# Altium schematic symbol library Device.SchLib: 567 symbols (part 1 of 3)
Pins are listed as number, name and electrical type; pins without a type are passive.

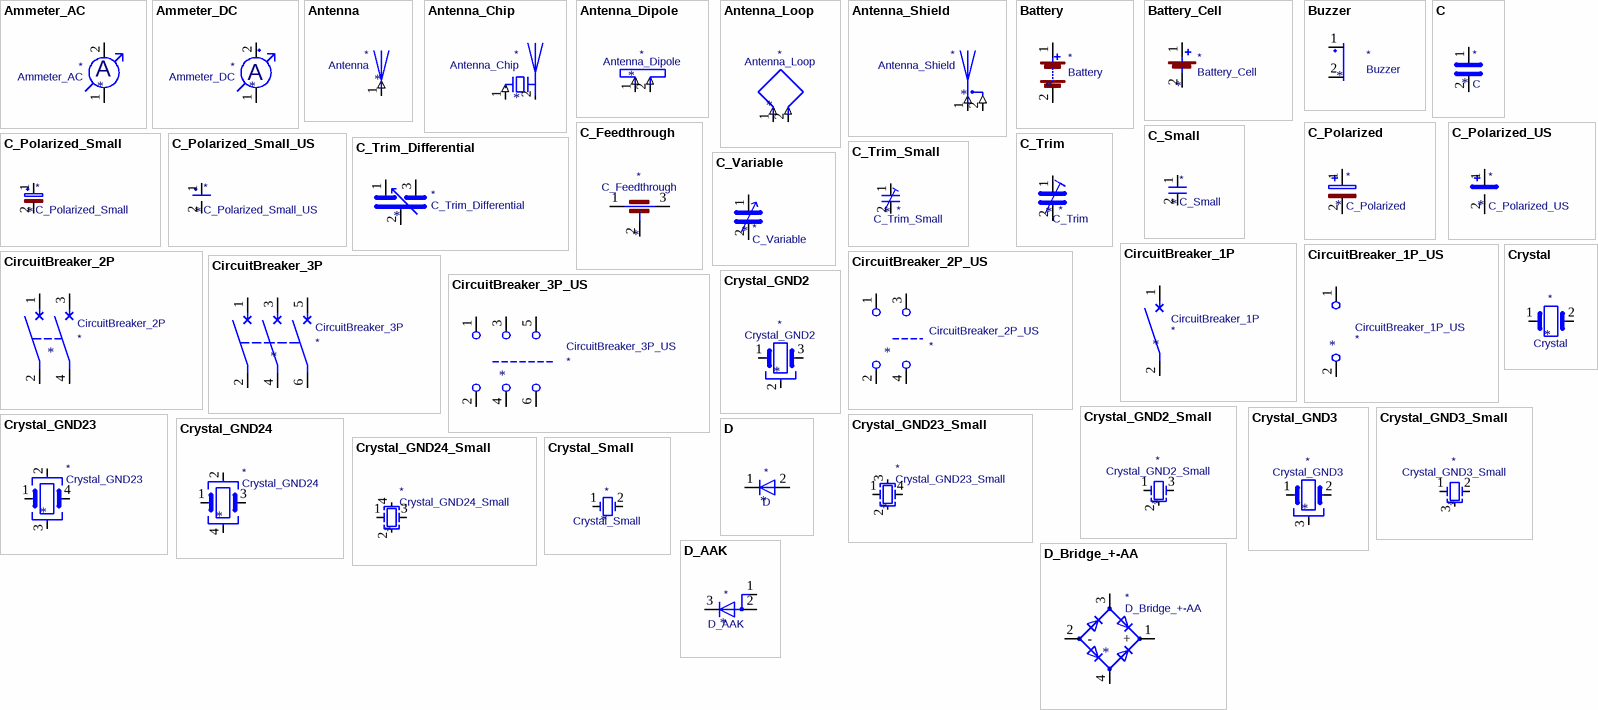
[diagram p0: symbols Ammeter_AC to D_Bridge_+-AA]

## Ammeter_AC
designator *  value Ammeter_AC
ki_keywords: ammeter AC ampere meter; ki_description: AC ammeter; Supplier: ~
pins: 1, 2
text: A

## Ammeter_DC
designator *  value Ammeter_DC
ki_keywords: ammeter DC ampere meter; ki_description: DC ammeter; Supplier: ~
pins: 1 -, 2 +
text: A

## Antenna
designator *  value Antenna
Supplier: ~; ki_keywords: antenna; ki_description: Antenna
pins: 1 A (in)

## Antenna_Chip
designator *  value Antenna_Chip
ki_keywords: antenna; ki_description: Ceramic chip antenna with pin for PCB trace; Supplier: ~
pins: 1 FEED (in), 2 PCB_Trace

## Antenna_Dipole
designator *  value Antenna_Dipole
ki_keywords: dipole antenna; Supplier: ~; ki_description: Dipole antenna
pins: 1 (in), 2 (in)

## Antenna_Loop
designator *  value Antenna_Loop
ki_keywords: loop antenna; Supplier: ~; ki_description: Loop antenna
pins: 1 (in), 2 (in)

## Antenna_Shield
designator *  value Antenna_Shield
ki_keywords: antenna; ki_description: Antenna with extra pin for shielding; Supplier: ~
pins: 1 A (in), 2 Shield (in)

## Battery
designator *  value Battery
ki_keywords: batt voltage-source cell; ki_description: Multiple-cell battery; Supplier: ~
pins: 1 +, 2 -

## Battery_Cell
designator *  value Battery_Cell
ki_keywords: battery cell; ki_description: Single-cell battery; Supplier: ~
pins: 1 +, 2 -

## Buzzer
designator *  value Buzzer
ki_keywords: quartz resonator ceramic; ki_description: Buzzer, polarized; ki_fp_filters: *Buzzer*; Supplier: ~
pins: 1 -, 2 +

## C
designator *  value C
ki_keywords: cap capacitor; ki_description: Unpolarized capacitor; ki_fp_filters: C_*; Supplier: ~
footprint C_0603_1608Metric
pins: 1, 2

## C_Feedthrough
designator *  value C_Feedthrough
ki_keywords: EMI filter feedthrough capacitor; ki_description: Feedthrough capacitor; Supplier: ~
pins: 1, 2, 3

## C_Polarized
designator *  value C_Polarized
ki_keywords: cap capacitor; ki_description: Polarized capacitor; ki_fp_filters: CP_*; Supplier: ~
pins: 1, 2

## C_Polarized_Small
designator *  value C_Polarized_Small
ki_keywords: cap capacitor; ki_description: Polarized capacitor, small symbol; ki_fp_filters: CP_*; Supplier: ~
pins: 1, 2

## C_Polarized_Small_US
designator *  value C_Polarized_Small_US
ki_keywords: cap capacitor; ki_description: Polarized capacitor, small US symbol; ki_fp_filters: CP_*; Supplier: ~
pins: 1, 2

## C_Polarized_US
designator *  value C_Polarized_US
ki_keywords: cap capacitor; ki_description: Polarized capacitor, US symbol; ki_fp_filters: CP_*; Supplier: ~
pins: 1, 2

## C_Small
designator *  value C_Small
ki_keywords: capacitor cap; ki_description: Unpolarized capacitor, small symbol; ki_fp_filters: C_*; Supplier: ~
pins: 1, 2

## C_Trim
designator *  value C_Trim
ki_keywords: trimmer variable capacitor; ki_description: Trimmable capacitor; Supplier: ~
pins: 1, 2

## C_Trim_Differential
designator *  value C_Trim_Differential
ki_keywords: trimmer capacitor; ki_description: Differential variable capacitor with two stators; Supplier: ~
pins: 1, 2, 3

## C_Trim_Small
designator *  value C_Trim_Small
ki_keywords: trimmer variable capacitor; ki_description: Trimmable capacitor, small symbol; ki_fp_filters: C_*; Supplier: ~
pins: 1, 2

## C_Variable
designator *  value C_Variable
ki_keywords: trimmer capacitor; ki_description: Variable capacitor; Supplier: ~
pins: 1, 2

## CircuitBreaker_1P
designator *  value CircuitBreaker_1P
ki_keywords: CB; ki_description: Single pole circuit breaker; Supplier: ~
pins: 1, 2

## CircuitBreaker_1P_US
designator *  value CircuitBreaker_1P_US
ki_keywords: CB; ki_description: Single pole circuit breaker, US symbol; Supplier: ~
pins: 1, 2

## CircuitBreaker_2P
designator *  value CircuitBreaker_2P
ki_keywords: CB 2P; ki_description: Double pole circuit breaker; Supplier: ~
pins: 1, 2, 3, 4

## CircuitBreaker_2P_US
designator *  value CircuitBreaker_2P_US
ki_keywords: CB 2P; ki_description: Double pole circuit breaker, US symbol; Supplier: ~
pins: 1, 2, 3, 4

## CircuitBreaker_3P
designator *  value CircuitBreaker_3P
ki_keywords: CB 3P; ki_description: Triple pole circuit breaker; Supplier: ~
pins: 1, 2, 3, 4, 5, 6

## CircuitBreaker_3P_US
designator *  value CircuitBreaker_3P_US
ki_keywords: CB 3P; ki_description: Triple pole circuit breaker, US symbol; Supplier: ~
pins: 1, 2, 3, 4, 5, 6

## Crystal
designator *  value Crystal
ki_keywords: quartz ceramic resonator oscillator; ki_description: Two pin crystal; ki_fp_filters: Crystal*; Supplier: ~
pins: 1, 2

## Crystal_GND2
designator *  value Crystal_GND2
ki_keywords: quartz ceramic resonator oscillator; ki_description: Three pin crystal, GND on pin 2; ki_fp_filters: Crystal*; Supplier: ~
pins: 1, 2, 3

## Crystal_GND2_Small
designator *  value Crystal_GND2_Small
ki_keywords: quartz ceramic resonator oscillator; ki_description: Three pin crystal, GND on pin 2, small symbol; ki_fp_filters: Crystal*; Supplier: ~
pins: 1, 2, 3

## Crystal_GND3
designator *  value Crystal_GND3
ki_keywords: quartz ceramic resonator oscillator; ki_description: Three pin crystal, GND on pin 3; ki_fp_filters: Crystal*; Supplier: ~
pins: 1, 2, 3

## Crystal_GND3_Small
designator *  value Crystal_GND3_Small
ki_keywords: quartz ceramic resonator oscillator; ki_description: Three pin crystal, GND on pin 3, small symbol; ki_fp_filters: Crystal*; Supplier: ~
pins: 1, 2, 3

## Crystal_GND23
designator *  value Crystal_GND23
ki_keywords: quartz ceramic resonator oscillator; ki_description: Four pin crystal, GND on pins 2 and 3; ki_fp_filters: Crystal*; Supplier: ~
pins: 1, 2, 3, 4

## Crystal_GND23_Small
designator *  value Crystal_GND23_Small
ki_keywords: quartz ceramic resonator oscillator; ki_description: Four pin crystal, GND on pins 2 and 3, small symbol; ki_fp_filters: Crystal*; Supplier: ~
pins: 1, 2, 3, 4

## Crystal_GND24
designator *  value Crystal_GND24
ki_keywords: quartz ceramic resonator oscillator; ki_description: Four pin crystal, GND on pins 2 and 4; ki_fp_filters: Crystal*; Supplier: ~
pins: 1, 2, 3, 4

## Crystal_GND24_Small
designator *  value Crystal_GND24_Small
ki_keywords: quartz ceramic resonator oscillator; ki_description: Four pin crystal, GND on pins 2 and 4, small symbol; ki_fp_filters: Crystal*; Supplier: ~
pins: 1, 2, 3, 4

## Crystal_Small
designator *  value Crystal_Small
ki_keywords: quartz ceramic resonator oscillator; ki_description: Two pin crystal, small symbol; ki_fp_filters: Crystal*; Supplier: ~
pins: 1, 2

## D
designator *  value D
ki_keywords: diode; ki_fp_filters: TO-???* *_Diode_* *SingleDiode* D_*; Supplier: ~; ki_description: Diode
footprint D_SOD-323
pins: 1 K, 2 A

## D_AAK
designator *  value D_AAK
ki_keywords: diode; ki_description: Diode, anode on pins 1 and 2; ki_fp_filters: TO-???* *_Diode_* *SingleDiode* D_*; Supplier: ~
pins: 1 A, 2 A, 3 K

## D_Bridge_+-AA
designator *  value D_Bridge_+-AA
ki_keywords: rectifier ACDC; ki_description: Diode bridge, +ve/-ve/AC/AC; ki_fp_filters: D*Bridge* D*Rectifier*; Supplier: ~
pins: 1 +, 2 -, 3, 4

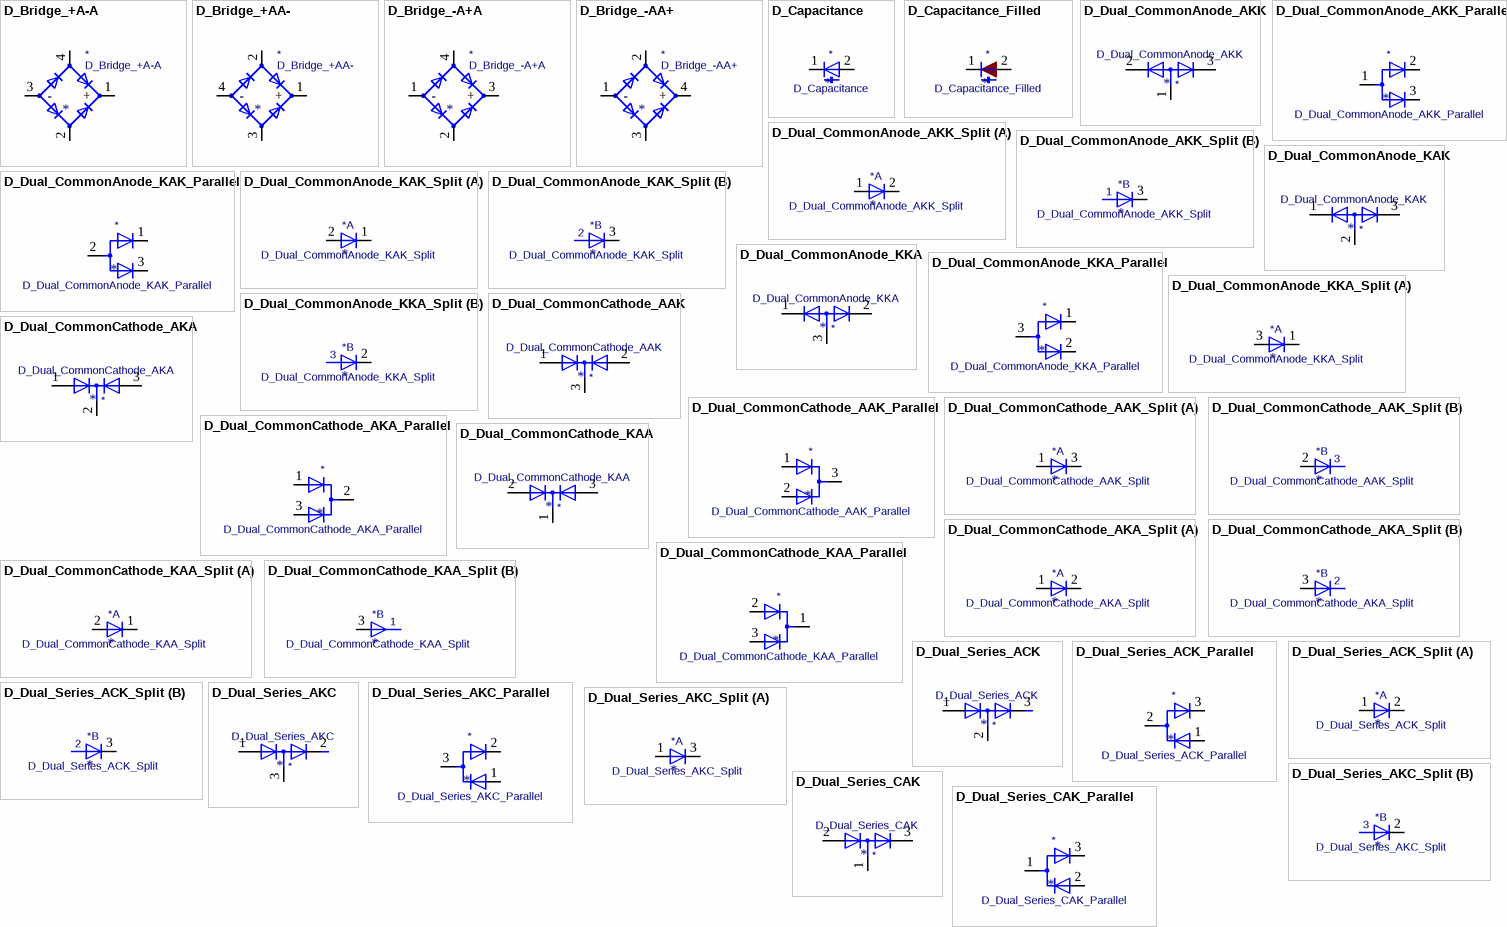
[diagram p1: symbols D_Bridge_+A-A to D_Dual_Series_CAK_Parallel]

## D_Bridge_+A-A
designator *  value D_Bridge_+A-A
ki_keywords: rectifier ACDC; ki_description: Diode bridge, +ve/AC/-ve/AC; ki_fp_filters: D*Bridge* D*Rectifier*; Supplier: ~
pins: 1 +, 2, 3 -, 4

## D_Bridge_+AA-
designator *  value D_Bridge_+AA-
ki_keywords: rectifier ACDC; ki_description: Diode bridge, +ve/AC/AC/-ve; ki_fp_filters: D*Bridge* D*Rectifier*; Supplier: ~
pins: 1 +, 2, 3, 4 -

## D_Bridge_-A+A
designator *  value D_Bridge_-A+A
ki_keywords: rectifier ACDC; ki_description: Diode bridge, -ve/AC/+ve/AC; ki_fp_filters: D*Bridge* D*Rectifier*; Supplier: ~
pins: 1 -, 2, 3 +, 4

## D_Bridge_-AA+
designator *  value D_Bridge_-AA+
ki_keywords: rectifier ACDC; ki_description: Diode bridge, -ve/AC/AC/+ve; ki_fp_filters: D*Bridge* D*Rectifier*; Supplier: ~
pins: 1 -, 2, 3, 4 +

## D_Capacitance
designator *  value D_Capacitance
ki_keywords: capacitance diode varicap varactor; ki_description: Variable capacitance diode; ki_fp_filters: TO-???* *_Diode_* *SingleDiode* D_*; Supplier: ~
pins: 1 K, 2 A

## D_Capacitance_Filled
designator *  value D_Capacitance_Filled
ki_keywords: capacitance diode varicap varactor; ki_description: Variable capacitance diode, filled shape; ki_fp_filters: TO-???* *_Diode_* *SingleDiode* D_*; Supplier: ~
pins: 1 K, 2 A

## D_Dual_CommonAnode_AKK
designator *  value D_Dual_CommonAnode_AKK
ki_keywords: diode; ki_description: Dual diode, common anode on pin 1; Supplier: ~
pins: 1 A, 2 K, 3 K

## D_Dual_CommonAnode_AKK_Parallel
designator *  value D_Dual_CommonAnode_AKK_Parallel
ki_keywords: diode; ki_description: Dual diode, common anode on pin 1; Supplier: ~
pins: 1 A, 2 K, 3 K

## D_Dual_CommonAnode_AKK_Split
designator *  value D_Dual_CommonAnode_AKK_Split
ki_keywords: diode; ki_description: Dual diode, common anode on pin 1; Supplier: ~
part A pins: 1 A, 2 K
part B pins: 3 K

## D_Dual_CommonAnode_KAK
designator *  value D_Dual_CommonAnode_KAK
ki_keywords: diode; ki_description: Dual diode, common anode on pin 2; Supplier: ~
pins: 1 K, 2 A, 3 K

## D_Dual_CommonAnode_KAK_Parallel
designator *  value D_Dual_CommonAnode_KAK_Parallel
ki_keywords: diode; ki_description: Dual diode, common anode on pin 1; Supplier: ~
pins: 1 K, 2 A, 3 K

## D_Dual_CommonAnode_KAK_Split
designator *  value D_Dual_CommonAnode_KAK_Split
ki_keywords: diode; ki_description: Dual diode, common anode on pin 1; Supplier: ~
part A pins: 1 K, 2 A
part B pins: 3 K

## D_Dual_CommonAnode_KKA
designator *  value D_Dual_CommonAnode_KKA
ki_keywords: diode; ki_description: Dual diode, common anode on pin 3; Supplier: ~
pins: 1 K, 2 K, 3 A

## D_Dual_CommonAnode_KKA_Parallel
designator *  value D_Dual_CommonAnode_KKA_Parallel
ki_keywords: diode; ki_description: Dual diode, common anode on pin 1; Supplier: ~
pins: 1 K, 2 K, 3 A

## D_Dual_CommonAnode_KKA_Split
designator *  value D_Dual_CommonAnode_KKA_Split
ki_keywords: diode; ki_description: Dual diode, common anode on pin 1; Supplier: ~
part A pins: 1 K, 3 A
part B pins: 2 K

## D_Dual_CommonCathode_AAK
designator *  value D_Dual_CommonCathode_AAK
ki_keywords: diode; ki_description: Dual diode, common cathode on pin 3; Supplier: ~
pins: 1 A, 2 A, 3 K

## D_Dual_CommonCathode_AAK_Parallel
designator *  value D_Dual_CommonCathode_AAK_Parallel
ki_keywords: diode; ki_description: Dual diode, common anode on pin 1; Supplier: ~
pins: 1 K, 2 K, 3 A

## D_Dual_CommonCathode_AAK_Split
designator *  value D_Dual_CommonCathode_AAK_Split
ki_keywords: diode; ki_description: Dual diode, common anode on pin 1; Supplier: ~
part A pins: 1 A, 3 K
part B pins: 2 K

## D_Dual_CommonCathode_AKA
designator *  value D_Dual_CommonCathode_AKA
ki_keywords: diode; ki_description: Dual diode, common cathode on pin 2; Supplier: ~
pins: 1 A, 2 K, 3 A

## D_Dual_CommonCathode_AKA_Parallel
designator *  value D_Dual_CommonCathode_AKA_Parallel
ki_keywords: diode; ki_description: Dual diode, common anode on pin 1; Supplier: ~
pins: 1 K, 2 A, 3 K

## D_Dual_CommonCathode_AKA_Split
designator *  value D_Dual_CommonCathode_AKA_Split
ki_keywords: diode; ki_description: Dual diode, common anode on pin 1; Supplier: ~
part A pins: 1 A, 2 K
part B pins: 3 K

## D_Dual_CommonCathode_KAA
designator *  value D_Dual_CommonCathode_KAA
ki_keywords: diode; ki_description: Dual diode, common cathode on pin 1; Supplier: ~
pins: 1 K, 2 A, 3 A

## D_Dual_CommonCathode_KAA_Parallel
designator *  value D_Dual_CommonCathode_KAA_Parallel
ki_keywords: diode; ki_description: Dual diode, common anode on pin 1; Supplier: ~
pins: 1 A, 2 K, 3 K

## D_Dual_CommonCathode_KAA_Split
designator *  value D_Dual_CommonCathode_KAA_Split
ki_keywords: diode; ki_description: Dual diode, common anode on pin 1; Supplier: ~
part A pins: 1 K, 2 A
part B pins: 3 K

## D_Dual_Series_ACK
designator *  value D_Dual_Series_ACK
ki_keywords: diode; ki_description: Dual diode, anode/center/cathode; Supplier: ~
pins: 1 A, 2 common, 3 K

## D_Dual_Series_ACK_Parallel
designator *  value D_Dual_Series_ACK_Parallel
ki_keywords: diode; ki_description: Dual diode, anode/center/cathode; Supplier: ~
pins: 1 K, 2 A, 3 K

## D_Dual_Series_ACK_Split
designator *  value D_Dual_Series_ACK_Split
ki_keywords: diode; ki_description: Dual diode, anode/center/cathode; Supplier: ~
part A pins: 1 A, 2 K
part B pins: 3 K

## D_Dual_Series_AKC
designator *  value D_Dual_Series_AKC
ki_keywords: diode; ki_description: Dual diode, anode/cathode/center; Supplier: ~
pins: 1 A, 2 K, 3 common

## D_Dual_Series_AKC_Parallel
designator *  value D_Dual_Series_AKC_Parallel
ki_keywords: diode; ki_description: Dual diode, anode/cathode/center; Supplier: ~
pins: 1 K, 2 K, 3 A

## D_Dual_Series_AKC_Split
designator *  value D_Dual_Series_AKC_Split
ki_keywords: diode; ki_description: Dual diode, anode/cathode/center; Supplier: ~
part A pins: 1 A, 3 K
part B pins: 2 K

## D_Dual_Series_CAK
designator *  value D_Dual_Series_CAK
ki_keywords: diode; ki_description: Dual diode, center/anode/cathode; Supplier: ~
pins: 1 common, 2 A, 3 K

## D_Dual_Series_CAK_Parallel
designator *  value D_Dual_Series_CAK_Parallel
ki_keywords: diode; ki_description: Dual diode, center/anode/cathode; Supplier: ~
pins: 1 A, 2 K, 3 K

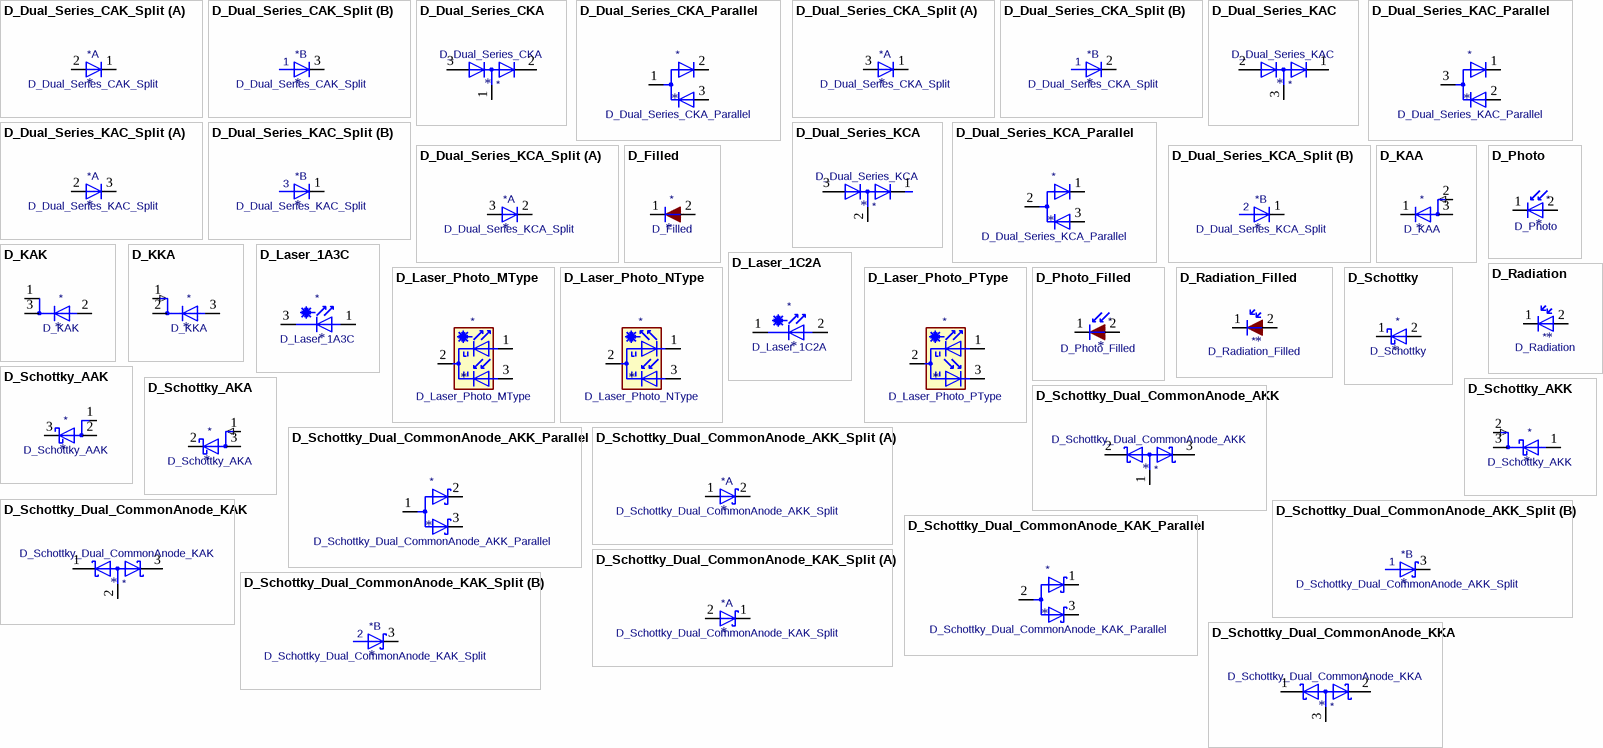
[diagram p2: symbols D_Dual_Series_CAK_Split to D_Schottky_Dual_CommonAnode_KKA]

## D_Dual_Series_CAK_Split
designator *  value D_Dual_Series_CAK_Split
ki_keywords: diode; ki_description: Dual diode, center/anode/cathode; Supplier: ~
part A pins: 1 K, 2 A
part B pins: 3 K

## D_Dual_Series_CKA
designator *  value D_Dual_Series_CKA
ki_keywords: diode; ki_description: Dual diode, center/cathode/anode; Supplier: ~
pins: 1 common, 2 K, 3 A

## D_Dual_Series_CKA_Parallel
designator *  value D_Dual_Series_CKA_Parallel
ki_keywords: diode; ki_description: Dual diode, center/cathode/anode; Supplier: ~
pins: 1 A, 2 K, 3 K

## D_Dual_Series_CKA_Split
designator *  value D_Dual_Series_CKA_Split
ki_keywords: diode; ki_description: Dual diode, center/cathode/anode; Supplier: ~
part A pins: 1 K, 3 A
part B pins: 2 K

## D_Dual_Series_KAC
designator *  value D_Dual_Series_KAC
ki_keywords: diode; ki_description: Dual diode, cathode/anode/center; Supplier: ~
pins: 1 K, 2 A, 3 common

## D_Dual_Series_KAC_Parallel
designator *  value D_Dual_Series_KAC_Parallel
ki_keywords: diode; ki_description: Dual diode, cathode/anode/center; Supplier: ~
pins: 1 K, 2 K, 3 A

## D_Dual_Series_KAC_Split
designator *  value D_Dual_Series_KAC_Split
ki_keywords: diode; ki_description: Dual diode, cathode/anode/center; Supplier: ~
part A pins: 2 A, 3 K
part B pins: 1 K

## D_Dual_Series_KCA
designator *  value D_Dual_Series_KCA
ki_keywords: diode; ki_description: Dual diode, cathode/center/anode; Supplier: ~
pins: 1 K, 2 common, 3 A

## D_Dual_Series_KCA_Parallel
designator *  value D_Dual_Series_KCA_Parallel
ki_keywords: diode; ki_description: Dual diode, cathode/center/anode; Supplier: ~
pins: 1 K, 2 A, 3 K

## D_Dual_Series_KCA_Split
designator *  value D_Dual_Series_KCA_Split
ki_keywords: diode; ki_description: Dual diode, cathode/center/anode; Supplier: ~
part A pins: 2 K, 3 A
part B pins: 1 K

## D_Filled
designator *  value D_Filled
ki_keywords: diode; ki_description: Diode, filled shape; ki_fp_filters: TO-???* *_Diode_* *SingleDiode* D_*; Supplier: ~
pins: 1 K, 2 A

## D_KAA
designator *  value D_KAA
ki_keywords: diode; ki_description: Diode, anode on pins 2 and 3; ki_fp_filters: TO-???* *_Diode_* *SingleDiode* D_*; Supplier: ~
pins: 1 K, 2 A (in), 3 A

## D_KAK
designator *  value D_KAK
ki_keywords: diode; ki_description: Diode, cathode on pins 1 and 3; ki_fp_filters: TO-???* *_Diode_* *SingleDiode* D_*; Supplier: ~
pins: 1 K, 2 A, 3 K

## D_KKA
designator *  value D_KKA
ki_keywords: diode; ki_description: Diode, cathode on pins 1 and 2; ki_fp_filters: TO-???* *_Diode_* *SingleDiode* D_*; Supplier: ~
pins: 1 K (in), 2 K, 3 A

## D_Laser_1A3C
designator *  value D_Laser_1A3C
ki_keywords: opto laserdiode; ki_description: Laser diode, cathode on pin 3, anode on pin 1; ki_fp_filters: *LaserDiode*; Supplier: ~
pins: 1 A, 3 K

## D_Laser_1C2A
designator *  value D_Laser_1C2A
ki_keywords: opto laserdiode; ki_description: Laser diode, cathode on pin 1, anode on pin 2; ki_fp_filters: *LaserDiode*; Supplier: ~
pins: 1 K, 2 A

## D_Laser_Photo_MType
designator *  value D_Laser_Photo_MType
ki_keywords: opto laserdiode photodiode; ki_description: Laser diode with photodiode, common cathode on pin 2; ki_fp_filters: *LaserDiode*; Supplier: http://www.egismos.disonhu.com/laser/diode-package.htm
pins: 1, 2, 3

## D_Laser_Photo_NType
designator *  value D_Laser_Photo_NType
ki_keywords: opto laserdiode photodiode; ki_description: Laser diode with photodiode, center on pin 2, LD cathode on pin 1; ki_fp_filters: *LaserDiode*; Supplier: http://www.egismos.disonhu.com/laser/diode-package.htm
pins: 1, 2, 3

## D_Laser_Photo_PType
designator *  value D_Laser_Photo_PType
ki_keywords: opto laserdiode photodiode; ki_description: Laser diode with photodiode, center on pin 2, PD cathode on pin 3; ki_fp_filters: *LaserDiode*; Supplier: http://www.egismos.disonhu.com/laser/diode-package.htm
pins: 1, 2, 3

## D_Photo
designator *  value D_Photo
ki_keywords: photodiode diode opto; ki_description: Photodiode; Supplier: ~
pins: 1 K, 2 A

## D_Photo_Filled
designator *  value D_Photo_Filled
ki_keywords: photodiode diode opto; ki_description: Photodiode, filled shape; Supplier: ~
pins: 1 K, 2 A

## D_Radiation
designator *  value D_Radiation
ki_keywords: radiation detector diode; ki_description: Semiconductor radiation detector; Supplier: ~
pins: 1 K, 2 A

## D_Radiation_Filled
designator *  value D_Radiation_Filled
ki_keywords: radiation detector diode; ki_description: Semiconductor radiation detector, filled shape; Supplier: ~
pins: 1 K, 2 A

## D_Schottky
designator *  value D_Schottky
ki_keywords: diode Schottky; ki_description: Schottky diode; ki_fp_filters: TO-???* *_Diode_* *SingleDiode* D_*; Supplier: ~
pins: 1 K, 2 A

## D_Schottky_AAK
designator *  value D_Schottky_AAK
ki_keywords: diode Schottky SCHDPAK; ki_description: Schottky diode, anode on pins 1 and 2; ki_fp_filters: TO-???* *_Diode_* *SingleDiode* D_*; Supplier: ~
pins: 1 A, 2 A, 3 K

## D_Schottky_AKA
designator *  value D_Schottky_AKA
ki_keywords: diode Schottky SCHDPAK; ki_description: Schottky diode, anode on pins 1 and 3; ki_fp_filters: TO-???* *_Diode_* *SingleDiode* D_*; Supplier: ~
pins: 1 A (in), 2 K, 3 A

## D_Schottky_AKK
designator *  value D_Schottky_AKK
ki_keywords: diode Schottky SCHDPAK; ki_description: Schottky diode, cathode on pins 2 and 3; ki_fp_filters: TO-???* *_Diode_* *SingleDiode* D_*; Supplier: ~
pins: 1 A, 2 K (in), 3 K

## D_Schottky_Dual_CommonAnode_AKK
designator *  value D_Schottky_Dual_CommonAnode_AKK
ki_keywords: diode; ki_description: Dual Schottky diode, common anode on pin 1; Supplier: ~
pins: 1 A, 2 K, 3 K

## D_Schottky_Dual_CommonAnode_AKK_Parallel
designator *  value D_Schottky_Dual_CommonAnode_AKK_Parallel
ki_keywords: diode; ki_description: Dual Schottky diode, common anode on pin 1; Supplier: ~
pins: 1 A, 2 K, 3 K

## D_Schottky_Dual_CommonAnode_AKK_Split
designator *  value D_Schottky_Dual_CommonAnode_AKK_Split
ki_keywords: diode; ki_description: Dual Schottky diode, common anode on pin 1; Supplier: ~
part A pins: 1 A, 2 K
part B pins: 3 K

## D_Schottky_Dual_CommonAnode_KAK
designator *  value D_Schottky_Dual_CommonAnode_KAK
ki_keywords: diode; ki_description: Dual Schottky diode, common anode on pin 2; Supplier: ~
pins: 1 K, 2 A, 3 K

## D_Schottky_Dual_CommonAnode_KAK_Parallel
designator *  value D_Schottky_Dual_CommonAnode_KAK_Parallel
ki_keywords: diode; ki_description: Dual Schottky diode, common anode on pin 1; Supplier: ~
pins: 1 K, 2 A, 3 K

## D_Schottky_Dual_CommonAnode_KAK_Split
designator *  value D_Schottky_Dual_CommonAnode_KAK_Split
ki_keywords: diode; ki_description: Dual Schottky diode, common anode on pin 1; Supplier: ~
part A pins: 1 K, 2 A
part B pins: 3 K

## D_Schottky_Dual_CommonAnode_KKA
designator *  value D_Schottky_Dual_CommonAnode_KKA
ki_keywords: diode; ki_description: Dual Schottky diode, common anode on pin 3; Supplier: ~
pins: 1 K, 2 K, 3 A

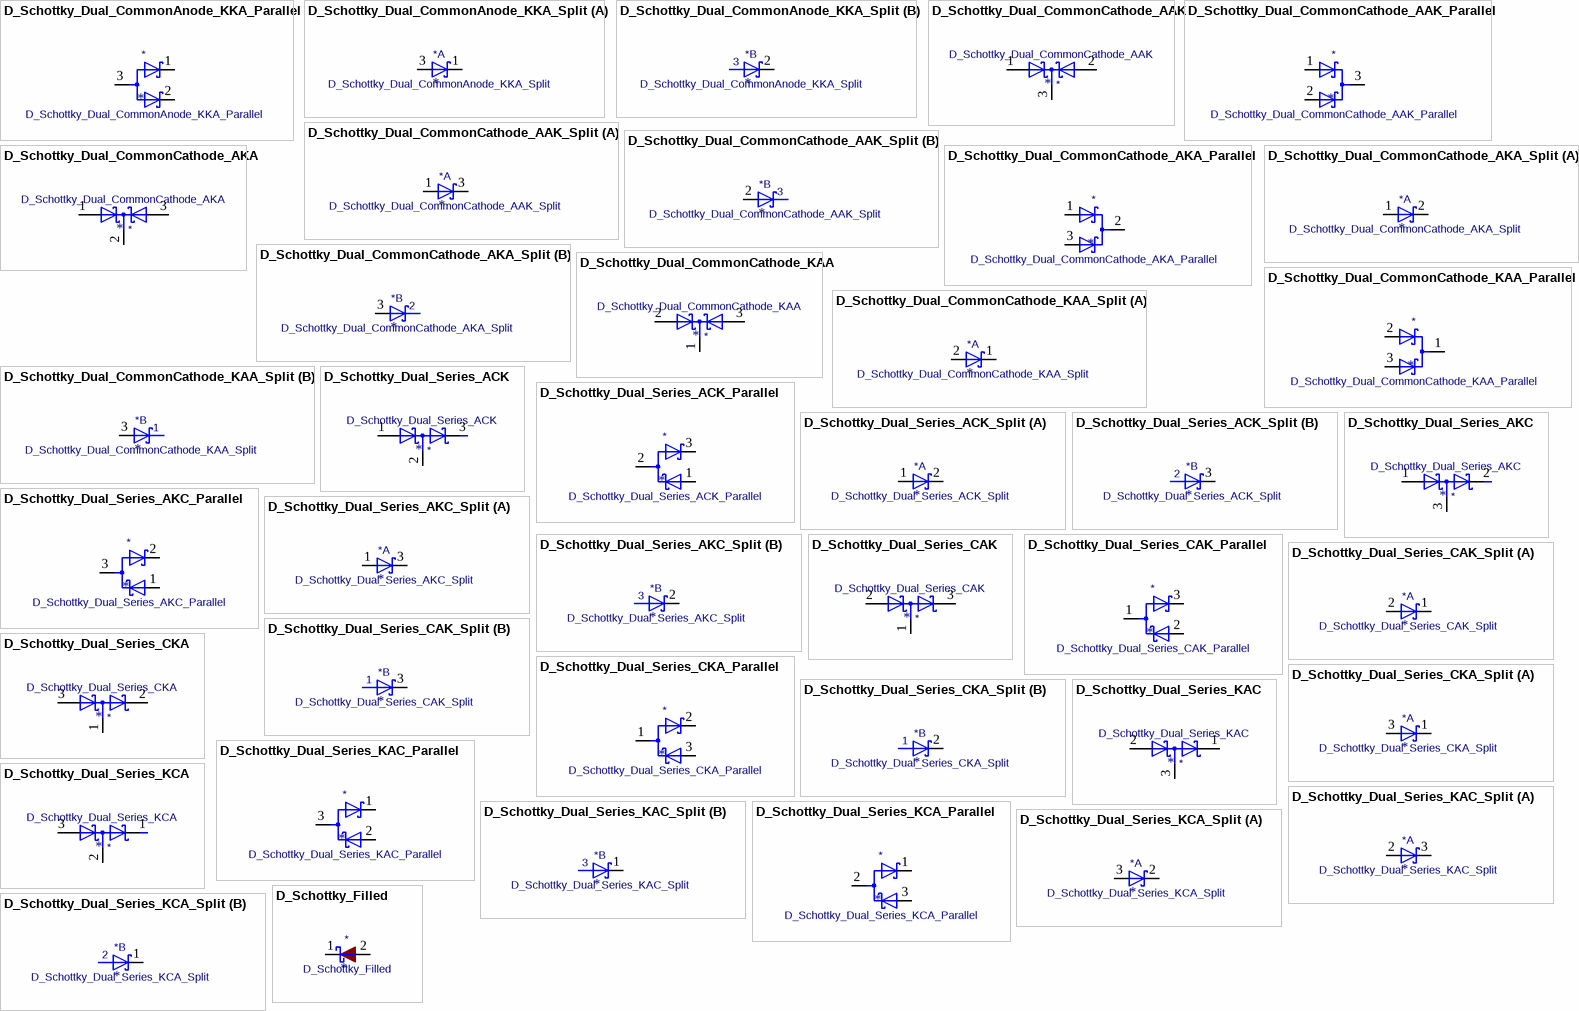
[diagram p3: symbols D_Schottky_Dual_CommonAnode_KKA_Parallel to D_Schottky_Filled]

## D_Schottky_Dual_CommonAnode_KKA_Parallel
designator *  value D_Schottky_Dual_CommonAnode_KKA_Parallel
ki_keywords: diode; ki_description: Dual Schottky diode, common anode on pin 1; Supplier: ~
pins: 1 K, 2 K, 3 A

## D_Schottky_Dual_CommonAnode_KKA_Split
designator *  value D_Schottky_Dual_CommonAnode_KKA_Split
ki_keywords: diode; ki_description: Dual Schottky diode, common anode on pin 1; Supplier: ~
part A pins: 1 K, 3 A
part B pins: 2 K

## D_Schottky_Dual_CommonCathode_AAK
designator *  value D_Schottky_Dual_CommonCathode_AAK
ki_keywords: diode; ki_description: Dual Schottky diode, common cathode on pin 3; Supplier: ~
pins: 1 A, 2 A, 3 K

## D_Schottky_Dual_CommonCathode_AAK_Parallel
designator *  value D_Schottky_Dual_CommonCathode_AAK_Parallel
ki_keywords: diode; ki_description: Dual Schottky diode, common anode on pin 1; Supplier: ~
pins: 1 K, 2 K, 3 A

## D_Schottky_Dual_CommonCathode_AAK_Split
designator *  value D_Schottky_Dual_CommonCathode_AAK_Split
ki_keywords: diode; ki_description: Dual Schottky diode, common anode on pin 1; Supplier: ~
part A pins: 1 A, 3 K
part B pins: 2 K

## D_Schottky_Dual_CommonCathode_AKA
designator *  value D_Schottky_Dual_CommonCathode_AKA
ki_keywords: diode; ki_description: Dual Schottky diode, common cathode on pin 2; Supplier: ~
pins: 1 A, 2 K, 3 A

## D_Schottky_Dual_CommonCathode_AKA_Parallel
designator *  value D_Schottky_Dual_CommonCathode_AKA_Parallel
ki_keywords: diode; ki_description: Dual Schottky diode, common anode on pin 1; Supplier: ~
pins: 1 K, 2 A, 3 K

## D_Schottky_Dual_CommonCathode_AKA_Split
designator *  value D_Schottky_Dual_CommonCathode_AKA_Split
ki_keywords: diode; ki_description: Dual Schottky diode, common anode on pin 1; Supplier: ~
part A pins: 1 A, 2 K
part B pins: 3 K

## D_Schottky_Dual_CommonCathode_KAA
designator *  value D_Schottky_Dual_CommonCathode_KAA
ki_keywords: diode; ki_description: Dual Schottky diode, common cathode on pin 1; Supplier: ~
pins: 1 K, 2 A, 3 A

## D_Schottky_Dual_CommonCathode_KAA_Parallel
designator *  value D_Schottky_Dual_CommonCathode_KAA_Parallel
ki_keywords: diode; ki_description: Dual Schottky diode, common anode on pin 1; Supplier: ~
pins: 1 A, 2 K, 3 K

## D_Schottky_Dual_CommonCathode_KAA_Split
designator *  value D_Schottky_Dual_CommonCathode_KAA_Split
ki_keywords: diode; ki_description: Dual Schottky diode, common anode on pin 1; Supplier: ~
part A pins: 1 K, 2 A
part B pins: 3 K

## D_Schottky_Dual_Series_ACK
designator *  value D_Schottky_Dual_Series_ACK
ki_keywords: diode; ki_description: Dual Schottky diode, anode/center/cathode; Supplier: ~
pins: 1 A, 2 common, 3 K

## D_Schottky_Dual_Series_ACK_Parallel
designator *  value D_Schottky_Dual_Series_ACK_Parallel
ki_keywords: diode; ki_description: Dual Schottky diode, anode/center/cathode; Supplier: ~
pins: 1 K, 2 A, 3 K

## D_Schottky_Dual_Series_ACK_Split
designator *  value D_Schottky_Dual_Series_ACK_Split
ki_keywords: diode; ki_description: Dual Schottky diode, anode/center/cathode; Supplier: ~
part A pins: 1 A, 2 K
part B pins: 3 K

## D_Schottky_Dual_Series_AKC
designator *  value D_Schottky_Dual_Series_AKC
ki_keywords: diode; ki_description: Dual Schottky diode, anode/cathode/center; Supplier: ~
pins: 1 A, 2 K, 3 common

## D_Schottky_Dual_Series_AKC_Parallel
designator *  value D_Schottky_Dual_Series_AKC_Parallel
ki_keywords: diode; ki_description: Dual Schottky diode, anode/cathode/center; Supplier: ~
pins: 1 K, 2 K, 3 A

## D_Schottky_Dual_Series_AKC_Split
designator *  value D_Schottky_Dual_Series_AKC_Split
ki_keywords: diode; ki_description: Dual Schottky diode, anode/cathode/center; Supplier: ~
part A pins: 1 A, 3 K
part B pins: 2 K

## D_Schottky_Dual_Series_CAK
designator *  value D_Schottky_Dual_Series_CAK
ki_keywords: diode; ki_description: Dual Schottky diode, center/anode/cathode; Supplier: ~
pins: 1 common, 2 A, 3 K

## D_Schottky_Dual_Series_CAK_Parallel
designator *  value D_Schottky_Dual_Series_CAK_Parallel
ki_keywords: diode; ki_description: Dual Schottky diode, center/anode/cathode; Supplier: ~
pins: 1 A, 2 K, 3 K

## D_Schottky_Dual_Series_CAK_Split
designator *  value D_Schottky_Dual_Series_CAK_Split
ki_keywords: diode; ki_description: Dual Schottky diode, center/anode/cathode; Supplier: ~
part A pins: 1 K, 2 A
part B pins: 3 K

## D_Schottky_Dual_Series_CKA
designator *  value D_Schottky_Dual_Series_CKA
ki_keywords: diode; ki_description: Dual Schottky diode, center/cathode/anode; Supplier: ~
pins: 1 common, 2 K, 3 A

## D_Schottky_Dual_Series_CKA_Parallel
designator *  value D_Schottky_Dual_Series_CKA_Parallel
ki_keywords: diode; ki_description: Dual Schottky diode, center/cathode/anode; Supplier: ~
pins: 1 A, 2 K, 3 K

## D_Schottky_Dual_Series_CKA_Split
designator *  value D_Schottky_Dual_Series_CKA_Split
ki_keywords: diode; ki_description: Dual Schottky diode, center/cathode/anode; Supplier: ~
part A pins: 1 K, 3 A
part B pins: 2 K

## D_Schottky_Dual_Series_KAC
designator *  value D_Schottky_Dual_Series_KAC
ki_keywords: diode; ki_description: Dual Schottky diode, cathode/anode/center; Supplier: ~
pins: 1 K, 2 A, 3 common

## D_Schottky_Dual_Series_KAC_Parallel
designator *  value D_Schottky_Dual_Series_KAC_Parallel
ki_keywords: diode; ki_description: Dual Schottky diode, cathode/anode/center; Supplier: ~
pins: 1 K, 2 K, 3 A

## D_Schottky_Dual_Series_KAC_Split
designator *  value D_Schottky_Dual_Series_KAC_Split
ki_keywords: diode; ki_description: Dual Schottky diode, cathode/anode/center; Supplier: ~
part A pins: 2 A, 3 K
part B pins: 1 K

## D_Schottky_Dual_Series_KCA
designator *  value D_Schottky_Dual_Series_KCA
ki_keywords: diode; ki_description: Dual Schottky diode, cathode/center/anode; Supplier: ~
pins: 1 K, 2 common, 3 A

## D_Schottky_Dual_Series_KCA_Parallel
designator *  value D_Schottky_Dual_Series_KCA_Parallel
ki_keywords: diode; ki_description: Dual Schottky diode, cathode/center/anode; Supplier: ~
pins: 1 K, 2 A, 3 K

## D_Schottky_Dual_Series_KCA_Split
designator *  value D_Schottky_Dual_Series_KCA_Split
ki_keywords: diode; ki_description: Dual Schottky diode, cathode/center/anode; Supplier: ~
part A pins: 2 K, 3 A
part B pins: 1 K

## D_Schottky_Filled
designator *  value D_Schottky_Filled
ki_keywords: diode Schottky; ki_description: Schottky diode, filled shape; ki_fp_filters: TO-???* *_Diode_* *SingleDiode* D_*; Supplier: ~
pins: 1 K, 2 A

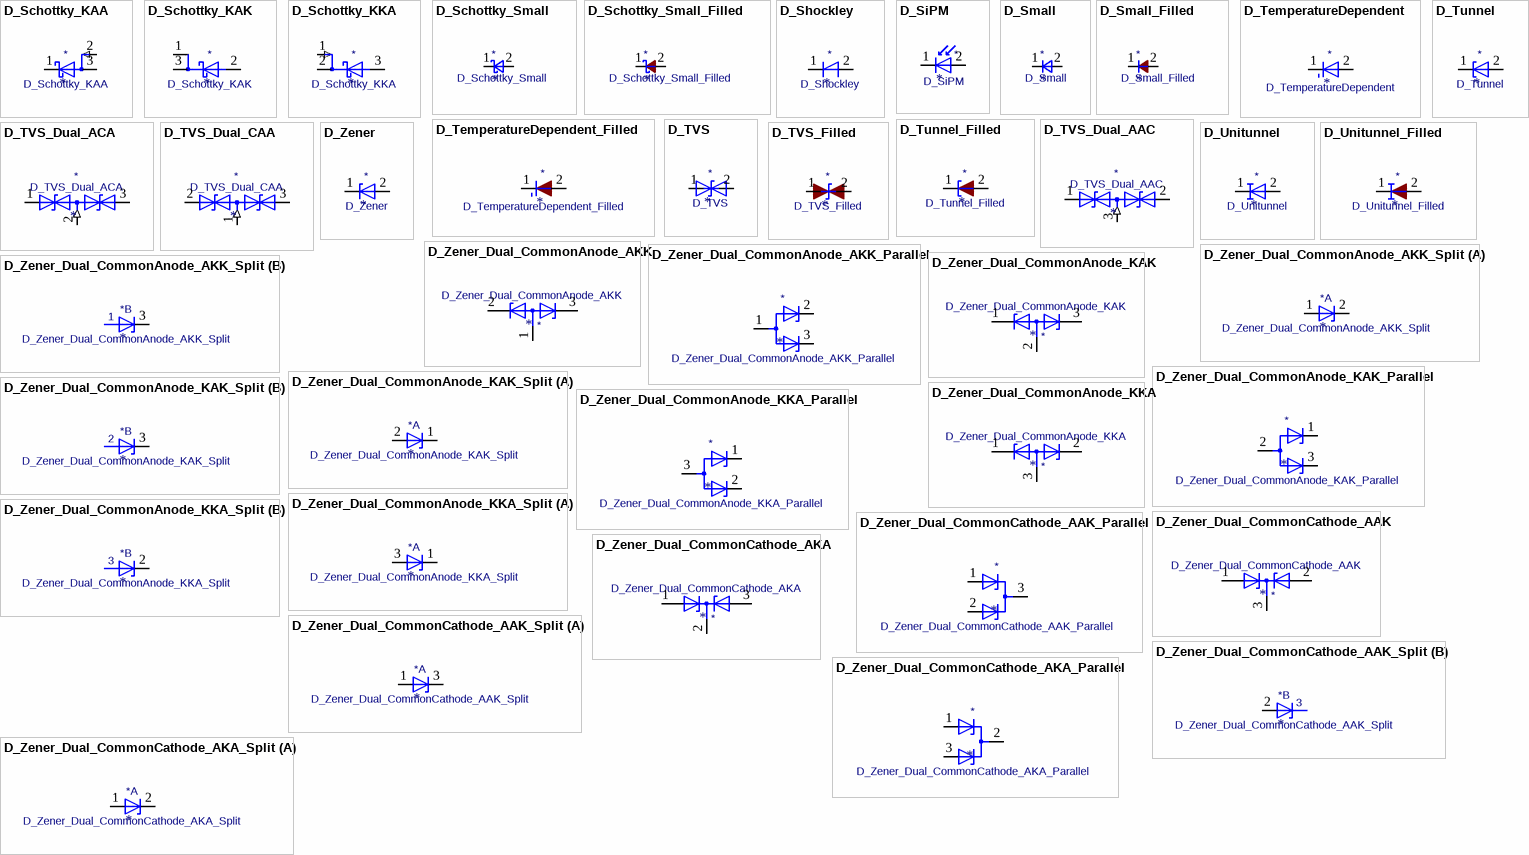
[diagram p4: symbols D_Schottky_KAA to D_Zener_Dual_CommonCathode_AKA_Split]

## D_Schottky_KAA
designator *  value D_Schottky_KAA
ki_keywords: diode Schottky SCHDPAK; ki_description: Schottky diode, anode on pins 2 and 3; ki_fp_filters: TO-???* *_Diode_* *SingleDiode* D_*; Supplier: ~
pins: 1 K, 2 A (in), 3 A

## D_Schottky_KAK
designator *  value D_Schottky_KAK
ki_keywords: diode Schottky SCHDPAK; ki_description: Schottky diode, cathode on pins 1 and 3; ki_fp_filters: TO-???* *_Diode_* *SingleDiode* D_*; Supplier: ~
pins: 1 K, 2 A, 3 K

## D_Schottky_KKA
designator *  value D_Schottky_KKA
ki_keywords: diode Schottky SCHDPAK; ki_description: Schottky diode, cathode on pins 1 and 2; ki_fp_filters: TO-???* *_Diode_* *SingleDiode* D_*; Supplier: ~
pins: 1 K (in), 2 K, 3 A

## D_Schottky_Small
designator *  value D_Schottky_Small
ki_keywords: diode Schottky; ki_description: Schottky diode, small symbol; ki_fp_filters: TO-???* *_Diode_* *SingleDiode* D_*; Supplier: ~
pins: 1 K, 2 A

## D_Schottky_Small_Filled
designator *  value D_Schottky_Small_Filled
ki_keywords: diode Schottky; ki_description: Schottky diode, small symbol, filled shape; ki_fp_filters: TO-???* *_Diode_* *SingleDiode* D_*; Supplier: ~
pins: 1 K, 2 A

## D_Shockley
designator *  value D_Shockley
ki_keywords: Shockley diode PNPN; ki_description: Shockley (PNPN) diode; ki_fp_filters: TO-???* *_Diode_* *SingleDiode* D_*; Supplier: ~
pins: 1 K, 2 A

## D_SiPM
designator *  value D_SiPM
ki_keywords: SiPM MPPC SPAD photon counting; ki_description: Silicon photomultiplier; ki_fp_filters: MPPC*; Supplier: ~
pins: 1 K, 2 A

## D_Small
designator *  value D_Small
ki_keywords: diode; ki_description: Diode, small symbol; ki_fp_filters: TO-???* *_Diode_* *SingleDiode* D_*; Supplier: ~
pins: 1 K, 2 A

## D_Small_Filled
designator *  value D_Small_Filled
ki_keywords: diode; ki_description: Diode, small symbol, filled shape; ki_fp_filters: TO-???* *_Diode_* *SingleDiode* D_*; Supplier: ~
pins: 1 K, 2 A

## D_TemperatureDependent
designator *  value D_TemperatureDependent
ki_keywords: temperature sensor diode; ki_description: Temperature dependent diode; ki_fp_filters: TO-???* *_Diode_* *SingleDiode* D_*; Supplier: ~
pins: 1 K, 2 A

## D_TemperatureDependent_Filled
designator *  value D_TemperatureDependent_Filled
ki_keywords: temperature sensor diode; ki_description: Temperature dependent diode, filled shape; ki_fp_filters: TO-???* *_Diode_* *SingleDiode* D_*; Supplier: ~
pins: 1 K, 2 A

## D_Tunnel
designator *  value D_Tunnel
ki_keywords: tunnel diode; ki_description: Tunnel diode (Esaki diode); ki_fp_filters: TO-???* *_Diode_* *SingleDiode* D_*; Supplier: ~
pins: 1 K, 2 A

## D_Tunnel_Filled
designator *  value D_Tunnel_Filled
ki_keywords: tunnel diode; ki_description: Tunnel diode (Esaki diode), filled shape; ki_fp_filters: TO-???* *_Diode_* *SingleDiode* D_*; Supplier: ~
pins: 1 K, 2 A

## D_TVS
designator *  value D_TVS
ki_keywords: diode TVS thyrector; ki_description: Bidirectional transient-voltage-suppression diode; ki_fp_filters: TO-???* *_Diode_* *SingleDiode* D_*; Supplier: ~
pins: 1 A1, 2 A2

## D_TVS_Dual_AAC
designator *  value D_TVS_Dual_AAC
ki_keywords: diode TVS thyrector; ki_description: Bidirectional dual transient-voltage-suppression diode, center on pin 3; Supplier: ~
pins: 1 A1, 2 A2, 3 common (in)

## D_TVS_Dual_ACA
designator *  value D_TVS_Dual_ACA
ki_keywords: diode TVS thyrector; ki_description: Bidirectional dual transient-voltage-suppression diode, center on pin 2; Supplier: ~
pins: 1 A1, 2 common (in), 3 A2

## D_TVS_Dual_CAA
designator *  value D_TVS_Dual_CAA
ki_keywords: diode TVS thyrector; ki_description: Bidirectional dual transient-voltage-suppression diode, center on pin 1; Supplier: ~
pins: 1 common (in), 2 A1, 3 A2

## D_TVS_Filled
designator *  value D_TVS_Filled
ki_keywords: diode TVS thyrector; ki_description: Bidirectional transient-voltage-suppression diode, filled shape; ki_fp_filters: TO-???* *_Diode_* *SingleDiode* D_*; Supplier: ~
pins: 1 A1, 2 A2

## D_Unitunnel
designator *  value D_Unitunnel
ki_keywords: unitunnel diode; ki_fp_filters: TO-???* *_Diode_* *SingleDiode* D_*; Supplier: ~; ki_description: Unitunnel diode
pins: 1 K, 2 A

## D_Unitunnel_Filled
designator *  value D_Unitunnel_Filled
ki_keywords: unitunnel diode; ki_description: Unitunnel diode, filled shape; ki_fp_filters: TO-???* *_Diode_* *SingleDiode* D_*; Supplier: ~
pins: 1 K, 2 A

## D_Zener
designator *  value D_Zener
ki_keywords: diode; ki_description: Zener diode; ki_fp_filters: TO-???* *_Diode_* *SingleDiode* D_*; Supplier: ~
pins: 1 K, 2 A

## D_Zener_Dual_CommonAnode_AKK
designator *  value D_Zener_Dual_CommonAnode_AKK
ki_keywords: diode zener dual; ki_description: Dual Zener diode, common anode on pin 1; ki_fp_filters: SOT* SC*; Supplier: ~
pins: 1 A, 2 K, 3 K

## D_Zener_Dual_CommonAnode_AKK_Parallel
designator *  value D_Zener_Dual_CommonAnode_AKK_Parallel
ki_keywords: diode; ki_description: Dual Zener diode, common anode on pin 1; Supplier: ~
pins: 1 A, 2 K, 3 K

## D_Zener_Dual_CommonAnode_AKK_Split
designator *  value D_Zener_Dual_CommonAnode_AKK_Split
ki_keywords: diode; ki_description: Dual Zener diode, common anode on pin 1; Supplier: ~
part A pins: 1 A, 2 K
part B pins: 3 K

## D_Zener_Dual_CommonAnode_KAK
designator *  value D_Zener_Dual_CommonAnode_KAK
ki_keywords: diode zener dual; ki_description: Dual Zener diode, common anode on pin 2; ki_fp_filters: SOT* SC*; Supplier: ~
pins: 1 K, 2 A, 3 K

## D_Zener_Dual_CommonAnode_KAK_Parallel
designator *  value D_Zener_Dual_CommonAnode_KAK_Parallel
ki_keywords: diode; ki_description: Dual Zener diode, common anode on pin 1; Supplier: ~
pins: 1 K, 2 A, 3 K

## D_Zener_Dual_CommonAnode_KAK_Split
designator *  value D_Zener_Dual_CommonAnode_KAK_Split
ki_keywords: diode; ki_description: Dual Zener diode, common anode on pin 1; Supplier: ~
part A pins: 1 K, 2 A
part B pins: 3 K

## D_Zener_Dual_CommonAnode_KKA
designator *  value D_Zener_Dual_CommonAnode_KKA
ki_keywords: diode zener dual; ki_description: Dual Zener diode, common anode on pin 3; ki_fp_filters: SOT* SC*; Supplier: ~
pins: 1 K, 2 K, 3 A

## D_Zener_Dual_CommonAnode_KKA_Parallel
designator *  value D_Zener_Dual_CommonAnode_KKA_Parallel
ki_keywords: diode; ki_description: Dual Zener diode, common anode on pin 1; Supplier: ~
pins: 1 K, 2 K, 3 A

## D_Zener_Dual_CommonAnode_KKA_Split
designator *  value D_Zener_Dual_CommonAnode_KKA_Split
ki_keywords: diode; ki_description: Dual Zener diode, common anode on pin 1; Supplier: ~
part A pins: 1 K, 3 A
part B pins: 2 K

## D_Zener_Dual_CommonCathode_AAK
designator *  value D_Zener_Dual_CommonCathode_AAK
ki_keywords: diode zener dual; ki_description: Dual Zener diode, common cathode on pin 3; ki_fp_filters: SOT* SC*; Supplier: ~
pins: 1 A, 2 A, 3 K

## D_Zener_Dual_CommonCathode_AAK_Parallel
designator *  value D_Zener_Dual_CommonCathode_AAK_Parallel
ki_keywords: diode; ki_description: Dual Zener diode, common anode on pin 1; Supplier: ~
pins: 1 K, 2 K, 3 A

## D_Zener_Dual_CommonCathode_AAK_Split
designator *  value D_Zener_Dual_CommonCathode_AAK_Split
ki_keywords: diode; ki_description: Dual Zener diode, common anode on pin 1; Supplier: ~
part A pins: 1 A, 3 K
part B pins: 2 K

## D_Zener_Dual_CommonCathode_AKA
designator *  value D_Zener_Dual_CommonCathode_AKA
ki_keywords: diode zener dual; ki_description: Dual Zener diode, common cathode on pin 2; ki_fp_filters: SOT* SC*; Supplier: ~
pins: 1 A, 2 K, 3 A

## D_Zener_Dual_CommonCathode_AKA_Parallel
designator *  value D_Zener_Dual_CommonCathode_AKA_Parallel
ki_keywords: diode; ki_description: Dual Zener diode, common anode on pin 1; Supplier: ~
pins: 1 K, 2 A, 3 K

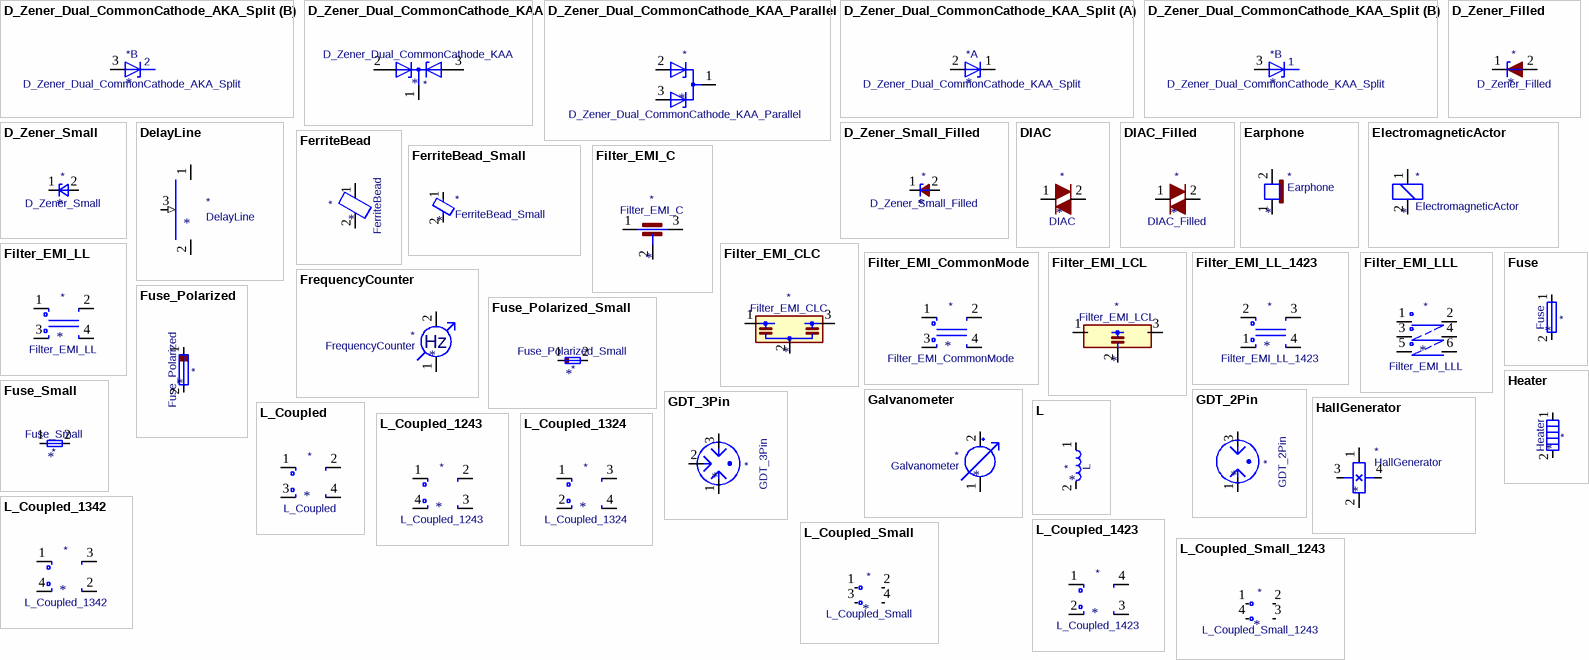
[diagram p5: symbols D_Zener_Dual_CommonCathode_AKA_Split to L_Coupled_Small_1243]

## D_Zener_Dual_CommonCathode_AKA_Split
designator *  value D_Zener_Dual_CommonCathode_AKA_Split
ki_keywords: diode; ki_description: Dual Zener diode, common anode on pin 1; Supplier: ~
part A pins: 1 A, 2 K
part B pins: 3 K

## D_Zener_Dual_CommonCathode_KAA
designator *  value D_Zener_Dual_CommonCathode_KAA
ki_keywords: diode zener dual; ki_description: Dual Zener diode, common cathode on pin 1; ki_fp_filters: SOT* SC*; Supplier: ~
pins: 1 K, 2 A, 3 A

## D_Zener_Dual_CommonCathode_KAA_Parallel
designator *  value D_Zener_Dual_CommonCathode_KAA_Parallel
ki_keywords: diode; ki_description: Dual Zener diode, common anode on pin 1; Supplier: ~
pins: 1 A, 2 K, 3 K

## D_Zener_Dual_CommonCathode_KAA_Split
designator *  value D_Zener_Dual_CommonCathode_KAA_Split
ki_keywords: diode; ki_description: Dual Zener diode, common anode on pin 1; Supplier: ~
part A pins: 1 K, 2 A
part B pins: 3 K

## D_Zener_Filled
designator *  value D_Zener_Filled
ki_keywords: diode; ki_description: Zener diode, filled shape; ki_fp_filters: TO-???* *_Diode_* *SingleDiode* D_*; Supplier: ~
pins: 1 K, 2 A

## D_Zener_Small
designator *  value D_Zener_Small
ki_keywords: diode; ki_description: Zener diode, small symbol; ki_fp_filters: TO-???* *_Diode_* *SingleDiode* D_*; Supplier: ~
pins: 1 K, 2 A

## D_Zener_Small_Filled
designator *  value D_Zener_Small_Filled
ki_keywords: diode; ki_description: Zener diode, small symbol, filled shape; ki_fp_filters: TO-???* *_Diode_* *SingleDiode* D_*; Supplier: ~
pins: 1 K, 2 A

## DelayLine
designator *  value DelayLine
ki_keywords: delay propagation retard impedance; ki_description: Delay line; Supplier: ~
pins: 1, 2, 3 COMMUN (in)

## DIAC
designator *  value DIAC
ki_keywords: AC diode DIAC; ki_description: Diode for alternating current; ki_fp_filters: TO-???* *_Diode_* *SingleDiode* D_*; Supplier: ~
pins: 1 K, 2 A

## DIAC_Filled
designator *  value DIAC_Filled
ki_keywords: AC diode DIAC; ki_description: Diode for alternating current, filled shape; ki_fp_filters: TO-???* *_Diode_* *SingleDiode* D_*; Supplier: ~
pins: 1 K, 2 A

## Earphone
designator *  value Earphone
ki_keywords: earphone speaker headphone; ki_description: Earphone, polarized; Supplier: ~
pins: 1 -, 2 +

## ElectromagneticActor
designator *  value ElectromagneticActor
ki_keywords: electromagnet coil inductor; ki_description: Electromagnetic actor; ki_fp_filters: Inductor_* L_*; Supplier: ~
pins: 1 -, 2 +

## FerriteBead
designator *  value FerriteBead
ki_keywords: L ferrite bead inductor filter; ki_description: Ferrite bead; ki_fp_filters: Inductor_* L_* *Ferrite*; Supplier: ~
pins: 1, 2

## FerriteBead_Small
designator *  value FerriteBead_Small
ki_keywords: L ferrite bead inductor filter; ki_description: Ferrite bead, small symbol; ki_fp_filters: Inductor_* L_* *Ferrite*; Supplier: ~
pins: 1, 2

## Filter_EMI_C
designator *  value Filter_EMI_C
ki_keywords: EMI filter feedthrough capacitor; ki_description: EMI filter, single capacitor; Supplier: http://www.murata.com/~/media/webrenewal/support/library/catalog/products/emc/emifil/c31e.ashx?la=en-gb
pins: 1, 2, 3

## Filter_EMI_CLC
designator *  value Filter_EMI_CLC
ki_keywords: EMI T-filter; ki_description: EMI T-filter (CLC); ki_fp_filters: Filter* Resonator*; Supplier: http://www.murata.com/~/media/webrenewal/support/library/catalog/products/emc/emifil/c31e.ashx?la=en-gb
pins: 1, 2, 3

## Filter_EMI_CommonMode
designator *  value Filter_EMI_CommonMode
ki_keywords: EMI common mode filter; ki_description: EMI 2-inductor common mode filter; ki_fp_filters: L_* L_CommonMode*; Supplier: ~
pins: 1, 2, 3, 4

## Filter_EMI_LCL
designator *  value Filter_EMI_LCL
ki_keywords: EMI T-filter; ki_description: EMI T-filter (LCL); ki_fp_filters: Filter* Resonator*; Supplier: http://www.murata.com/~/media/webrenewal/support/library/catalog/products/emc/emifil/c31e.ashx?la=en-gb
pins: 1, 2, 3

## Filter_EMI_LL
designator *  value Filter_EMI_LL
ki_keywords: EMI filter; ki_description: EMI 2-inductor filter; ki_fp_filters: L_* L_CommonMode*; Supplier: ~
pins: 1, 2, 3, 4

## Filter_EMI_LL_1423
designator *  value Filter_EMI_LL_1423
ki_keywords: EMI filter common-mode choke; ki_description: EMI 2-inductor filter, pin-connections 1-4 and 2-3; ki_fp_filters: Bourns*SRF0905*; Supplier: ~
pins: 1, 2, 3, 4

## Filter_EMI_LLL
designator *  value Filter_EMI_LLL
ki_keywords: three phase common mode choke; ki_description: EMI 3-inductor filter; ki_fp_filters: L* L_CommonMode*; Supplier: ~
pins: 1, 2, 3, 4, 5, 6

## FrequencyCounter
designator *  value FrequencyCounter
ki_keywords: frequency counter; Supplier: ~; ki_description: Frequency counter
pins: 1 -, 2 +
text: Hz

## Fuse
designator *  value Fuse
ki_fp_filters: *Fuse*; Supplier: ~; ki_keywords: fuse; ki_description: Fuse
footprint Fuse_0805_2012Metric
pins: 1, 2

## Fuse_Polarized
designator *  value Fuse_Polarized
ki_keywords: fuse; ki_description: Polarized fuse; ki_fp_filters: *Fuse*; Supplier: ~
pins: 1 (power), 2 (power)

## Fuse_Polarized_Small
designator *  value Fuse_Polarized_Small
ki_keywords: fuse; ki_description: Polarized fuse, small symbol; ki_fp_filters: SM*; Supplier: ~
pins: 1 (power), 2 (power)

## Fuse_Small
designator *  value Fuse_Small
ki_keywords: fuse; ki_description: Fuse, small symbol; ki_fp_filters: SM*; Supplier: ~
pins: 1, 2

## Galvanometer
designator *  value Galvanometer
Supplier: ~; ki_keywords: galvanometer; ki_description: Galvanometer
pins: 1 -, 2 +

## GDT_2Pin
designator *  value GDT_2Pin
ki_keywords: gdt; ki_description: Gas Discharge Tube with 2 Pins; Supplier: ~
pins: 1, 3

## GDT_3Pin
designator *  value GDT_3Pin
ki_keywords: gdt; ki_description: Gas Discharge Tube with 3 Pins; Supplier: ~
pins: 1, 2, 3

## HallGenerator
designator *  value HallGenerator
ki_keywords: Hall generator magnet; ki_description: Hall effect generator; Supplier: ~
pins: 1 U1, 2 U2, 3 UH1, 4 UH2

## Heater
designator *  value Heater
ki_keywords: heater R resistor; ki_description: Resistive heater; Supplier: ~
pins: 1, 2

## L
designator *  value L
ki_keywords: inductor choke coil reactor magnetic; ki_description: Inductor; ki_fp_filters: Choke_* *Coil* Inductor_* L_*; Supplier: ~
footprint L_6.3x6.3_H3
pins: 1, 2

## L_Coupled
designator *  value L_Coupled
ki_keywords: inductor choke coil reactor magnetic coupled; ki_description: Coupled inductor; ki_fp_filters: Choke_* *Coil* Inductor_* L_*; Supplier: ~
pins: 1, 2, 3, 4

## L_Coupled_1243
designator *  value L_Coupled_1243
ki_keywords: inductor choke coil reactor magnetic coupled; ki_description: Coupled inductor; ki_fp_filters: Choke_* *Coil* Inductor_* L_*; Supplier: ~
pins: 1, 2, 3, 4

## L_Coupled_1324
designator *  value L_Coupled_1324
ki_keywords: inductor choke coil reactor magnetic coupled; ki_description: Coupled inductor; ki_fp_filters: Choke_* *Coil* Inductor_* L_*; Supplier: ~
pins: 1, 2, 3, 4

## L_Coupled_1342
designator *  value L_Coupled_1342
ki_keywords: inductor choke coil reactor magnetic coupled; ki_description: Coupled inductor; ki_fp_filters: Choke_* *Coil* Inductor_* L_*; Supplier: ~
pins: 1, 2, 3, 4

## L_Coupled_1423
designator *  value L_Coupled_1423
ki_keywords: inductor choke coil reactor magnetic coupled; ki_description: Coupled inductor; ki_fp_filters: Choke_* *Coil* Inductor_* L_*; Supplier: ~
pins: 1, 2, 3, 4

## L_Coupled_Small
designator *  value L_Coupled_Small
ki_keywords: inductor choke coil reactor magnetic coupled; ki_description: Coupled inductor, small symbol; ki_fp_filters: Choke_* *Coil* Inductor_* L_*; Supplier: ~
pins: 1, 2, 3, 4

## L_Coupled_Small_1243
designator *  value L_Coupled_Small_1243
ki_keywords: inductor choke coil reactor magnetic coupled; ki_description: Coupled inductor, small symbol; ki_fp_filters: Choke_* *Coil* Inductor_* L_*; Supplier: ~
pins: 1, 2, 3, 4

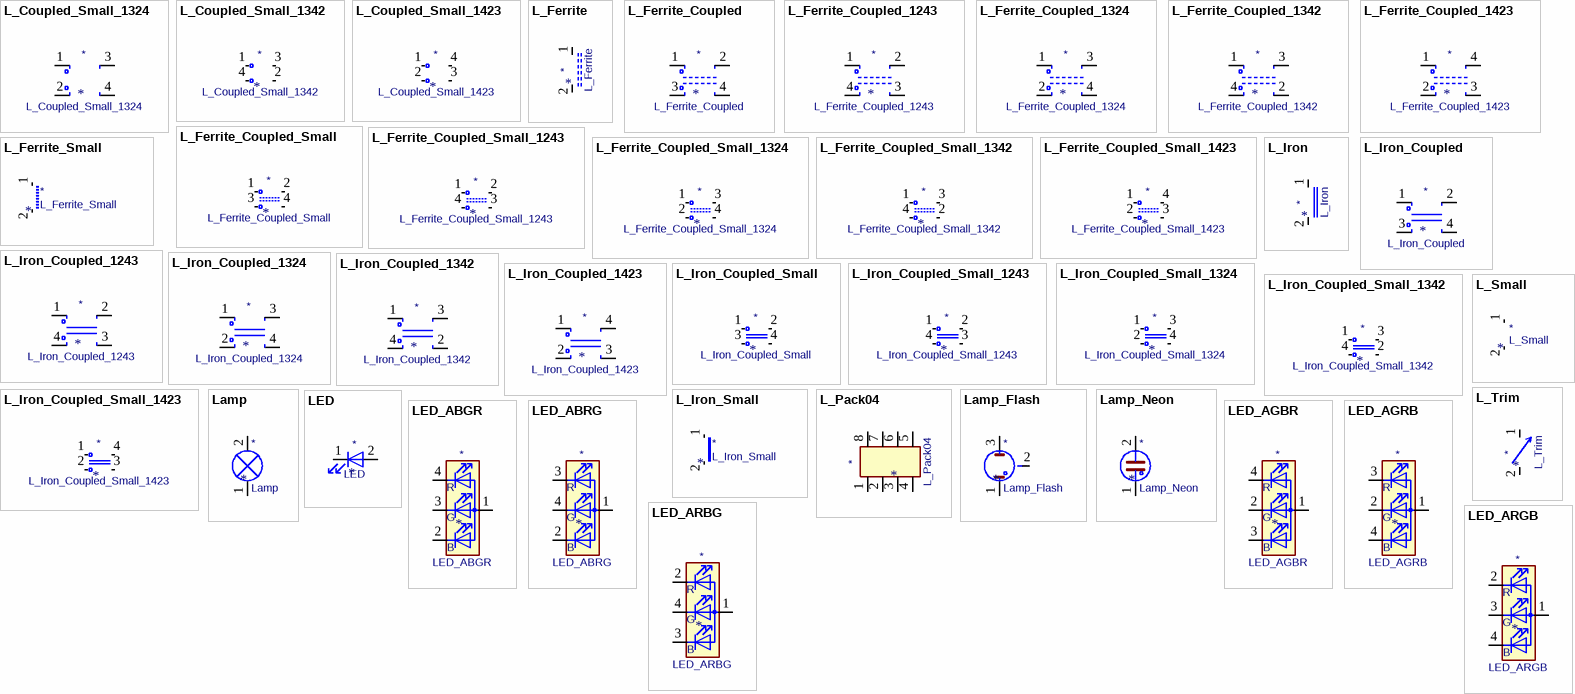
[diagram p6: symbols L_Coupled_Small_1324 to LED_ARGB]

## L_Coupled_Small_1324
designator *  value L_Coupled_Small_1324
ki_keywords: inductor choke coil reactor magnetic coupled; ki_description: Coupled inductor, small symbol; ki_fp_filters: Choke_* *Coil* Inductor_* L_*; Supplier: ~
pins: 1, 2, 3, 4

## L_Coupled_Small_1342
designator *  value L_Coupled_Small_1342
ki_keywords: inductor choke coil reactor magnetic coupled; ki_description: Coupled inductor, small symbol; ki_fp_filters: Choke_* *Coil* Inductor_* L_*; Supplier: ~
pins: 1, 2, 3, 4

## L_Coupled_Small_1423
designator *  value L_Coupled_Small_1423
ki_keywords: inductor choke coil reactor magnetic coupled; ki_description: Coupled inductor, small symbol; ki_fp_filters: Choke_* *Coil* Inductor_* L_*; Supplier: ~
pins: 1, 2, 3, 4

## L_Ferrite
designator *  value L_Ferrite
ki_keywords: inductor choke coil reactor magnetic; ki_description: Inductor with ferrite core; ki_fp_filters: Choke_* *Coil* Inductor_* L_*; Supplier: ~
pins: 1, 2

## L_Ferrite_Coupled
designator *  value L_Ferrite_Coupled
ki_keywords: inductor choke coil reactor magnetic coupled; ki_description: Coupled inductor with ferrite core; ki_fp_filters: Choke_* *Coil* Inductor_* L_*; Supplier: ~
pins: 1, 2, 3, 4

## L_Ferrite_Coupled_1243
designator *  value L_Ferrite_Coupled_1243
ki_keywords: inductor choke coil reactor magnetic coupled; ki_description: Coupled inductor with ferrite core; ki_fp_filters: Choke_* *Coil* Inductor_* L_*; Supplier: ~
pins: 1, 2, 3, 4

## L_Ferrite_Coupled_1324
designator *  value L_Ferrite_Coupled_1324
ki_keywords: inductor choke coil reactor magnetic coupled; ki_description: Coupled inductor with ferrite core; ki_fp_filters: Choke_* *Coil* Inductor_* L_*; Supplier: ~
pins: 1, 2, 3, 4

## L_Ferrite_Coupled_1342
designator *  value L_Ferrite_Coupled_1342
ki_keywords: inductor choke coil reactor magnetic coupled; ki_description: Coupled inductor with ferrite core; ki_fp_filters: Choke_* *Coil* Inductor_* L_*; Supplier: ~
pins: 1, 2, 3, 4

## L_Ferrite_Coupled_1423
designator *  value L_Ferrite_Coupled_1423
ki_keywords: inductor choke coil reactor magnetic coupled; ki_description: Coupled inductor with ferrite core; ki_fp_filters: Choke_* *Coil* Inductor_* L_*; Supplier: ~
pins: 1, 2, 3, 4

## L_Ferrite_Coupled_Small
designator *  value L_Ferrite_Coupled_Small
ki_keywords: inductor choke coil reactor magnetic coupled; ki_description: Coupled inductor with ferrite core, small symbol; ki_fp_filters: Choke_* *Coil* Inductor_* L_*; Supplier: ~
pins: 1, 2, 3, 4

## L_Ferrite_Coupled_Small_1243
designator *  value L_Ferrite_Coupled_Small_1243
ki_keywords: inductor choke coil reactor magnetic coupled; ki_description: Coupled inductor with ferrite core, small symbol; ki_fp_filters: Choke_* *Coil* Inductor_* L_*; Supplier: ~
pins: 1, 2, 3, 4

## L_Ferrite_Coupled_Small_1324
designator *  value L_Ferrite_Coupled_Small_1324
ki_keywords: inductor choke coil reactor magnetic coupled; ki_description: Coupled inductor with ferrite core, small symbol; ki_fp_filters: Choke_* *Coil* Inductor_* L_*; Supplier: ~
pins: 1, 2, 3, 4

## L_Ferrite_Coupled_Small_1342
designator *  value L_Ferrite_Coupled_Small_1342
ki_keywords: inductor choke coil reactor magnetic coupled; ki_description: Coupled inductor with ferrite core, small symbol; ki_fp_filters: Choke_* *Coil* Inductor_* L_*; Supplier: ~
pins: 1, 2, 3, 4

## L_Ferrite_Coupled_Small_1423
designator *  value L_Ferrite_Coupled_Small_1423
ki_keywords: inductor choke coil reactor magnetic coupled; ki_description: Coupled inductor with ferrite core, small symbol; ki_fp_filters: Choke_* *Coil* Inductor_* L_*; Supplier: ~
pins: 1, 2, 3, 4

## L_Ferrite_Small
designator *  value L_Ferrite_Small
ki_keywords: inductor choke coil reactor magnetic; ki_description: Inductor with ferrite core, small symbol; ki_fp_filters: Choke_* *Coil* Inductor_* L_*; Supplier: ~
pins: 1, 2

## L_Iron
designator *  value L_Iron
ki_keywords: inductor choke coil reactor magnetic; ki_description: Inductor with iron core; ki_fp_filters: Choke_* *Coil* Inductor_* L_*; Supplier: ~
pins: 1, 2

## L_Iron_Coupled
designator *  value L_Iron_Coupled
ki_keywords: inductor choke coil reactor magnetic coupled; ki_description: Coupled inductor with iron core; ki_fp_filters: Choke_* *Coil* Inductor_* L_*; Supplier: ~
pins: 1, 2, 3, 4

## L_Iron_Coupled_1243
designator *  value L_Iron_Coupled_1243
ki_keywords: inductor choke coil reactor magnetic coupled; ki_description: Coupled inductor with iron core; ki_fp_filters: Choke_* *Coil* Inductor_* L_*; Supplier: ~
pins: 1, 2, 3, 4

## L_Iron_Coupled_1324
designator *  value L_Iron_Coupled_1324
ki_keywords: inductor choke coil reactor magnetic coupled; ki_description: Coupled inductor with iron core; ki_fp_filters: Choke_* *Coil* Inductor_* L_*; Supplier: ~
pins: 1, 2, 3, 4

## L_Iron_Coupled_1342
designator *  value L_Iron_Coupled_1342
ki_keywords: inductor choke coil reactor magnetic coupled; ki_description: Coupled inductor with iron core; ki_fp_filters: Choke_* *Coil* Inductor_* L_*; Supplier: ~
pins: 1, 2, 3, 4

## L_Iron_Coupled_1423
designator *  value L_Iron_Coupled_1423
ki_keywords: inductor choke coil reactor magnetic coupled; ki_description: Coupled inductor with iron core; ki_fp_filters: Choke_* *Coil* Inductor_* L_*; Supplier: ~
pins: 1, 2, 3, 4

## L_Iron_Coupled_Small
designator *  value L_Iron_Coupled_Small
ki_keywords: inductor choke coil reactor magnetic coupled; ki_description: Coupled inductor with iron core, small symbol; ki_fp_filters: Choke_* *Coil* Inductor_* L_*; Supplier: ~
pins: 1, 2, 3, 4

## L_Iron_Coupled_Small_1243
designator *  value L_Iron_Coupled_Small_1243
ki_keywords: inductor choke coil reactor magnetic coupled; ki_description: Coupled inductor with iron core, small symbol; ki_fp_filters: Choke_* *Coil* Inductor_* L_*; Supplier: ~
pins: 1, 2, 3, 4

## L_Iron_Coupled_Small_1324
designator *  value L_Iron_Coupled_Small_1324
ki_keywords: inductor choke coil reactor magnetic coupled; ki_description: Coupled inductor with iron core, small symbol; ki_fp_filters: Choke_* *Coil* Inductor_* L_*; Supplier: ~
pins: 1, 2, 3, 4

## L_Iron_Coupled_Small_1342
designator *  value L_Iron_Coupled_Small_1342
ki_keywords: inductor choke coil reactor magnetic coupled; ki_description: Coupled inductor with iron core, small symbol; ki_fp_filters: Choke_* *Coil* Inductor_* L_*; Supplier: ~
pins: 1, 2, 3, 4

## L_Iron_Coupled_Small_1423
designator *  value L_Iron_Coupled_Small_1423
ki_keywords: inductor choke coil reactor magnetic coupled; ki_description: Coupled inductor with iron core, small symbol; ki_fp_filters: Choke_* *Coil* Inductor_* L_*; Supplier: ~
pins: 1, 2, 3, 4

## L_Iron_Small
designator *  value L_Iron_Small
ki_keywords: inductor choke coil reactor magnetic; ki_description: Inductor with iron core, small symbol; ki_fp_filters: Choke_* *Coil* Inductor_* L_*; Supplier: ~
pins: 1, 2

## L_Pack04
designator *  value L_Pack04
ki_keywords: L network parallel topology; ki_description: 4 inductor network, parallel topology; Supplier: ~
pins: 1, 2, 3, 4, 5, 6, 7, 8

## L_Small
designator *  value L_Small
ki_keywords: inductor choke coil reactor magnetic; ki_description: Inductor, small symbol; ki_fp_filters: Choke_* *Coil* Inductor_* L_*; Supplier: ~
pins: 1, 2

## L_Trim
designator *  value L_Trim
ki_keywords: inductor choke coil reactor magnetic; ki_description: Variable inductor; ki_fp_filters: Inductor_* L_*; Supplier: ~
pins: 1, 2

## Lamp
designator *  value Lamp
Supplier: ~; ki_keywords: lamp; ki_description: Lamp
pins: 1 -, 2 +